# Altium footprint library SCHURTER_3403.0166.24.PcbLib: 1 footprints
Each footprint in its own frame and in the unit in brackets; x right, y up, seen from the top. Pads: shape width x height; smd on the part's side, far side on the other; paste and mask are expansions set on the pad; w line width, h text height; cw(c..) or ccw(c..) is an arc to the next point about the centre after c.
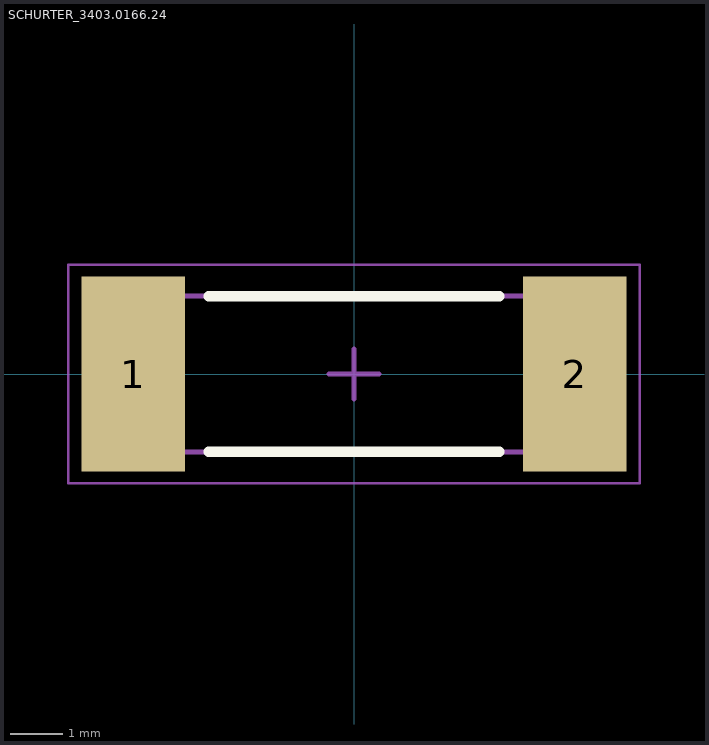
[diagram p0: the footprint, top view; thin cyan lines are the x and y axes]

## SCHURTER_3403.0166.24 [mm]
height 0.95
pads (2):
  rect 2x3.75 smd: 1(-4.25,0) 2(4.25,0)
Top Overlay:
  lines w0.2: -2.8,-1.5 2.8,-1.5 ; -2.8,1.5 2.8,1.5
Top 3D Body:
  lines w0.1: -5.05,-1.5 -5.05,1.5 5.05,1.5 5.05,-1.5 -5.05,-1.5
Top Courtyard (Mech15):
  lines w0.05: -5.5,-2.1 -5.5,2.1 5.5,2.1 5.5,-2.1 -5.5,-2.1
  lines w0.1: -0.475,0 0.475,0 ; 0,-0.475 0,0.475
3D body: height 3, standoff 0, extent -5.05,-1.5 5.05,1.5